# Altium schematic symbol library CD214B-FS2K.SchLib: 1 symbol
Pins are listed as number, name and electrical type; pins without a type are passive.

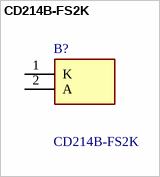
[diagram p0: symbol CD214B-FS2K]

## CD214B-FS2K
designator B?
Rectifiers 800V 2A; Manufacturer_Name: Bourns; Geometry.Height: 1.25mm; Mouser Part Number: 652-CD214B-FS2K; Mouser Price/Stock: https://www.mouser.co.uk/ProductDetail/Bourns/CD214B-FS2K?qs=f9yNj16SXrLQSBa%252BXyEv0g%3D%3D; Manufacturer_Part_Number: CD214B-FS2K; Datasheet Link: http://www.bourns.com/docs/product-datasheets/CD214B-FS2x.pdf
footprint CD214BFS2K
pins: 1 K, 2 A